# EAGLE library part E24 (library 00shaunc)
24-Electrode Laser Milled Pt Electrode Array
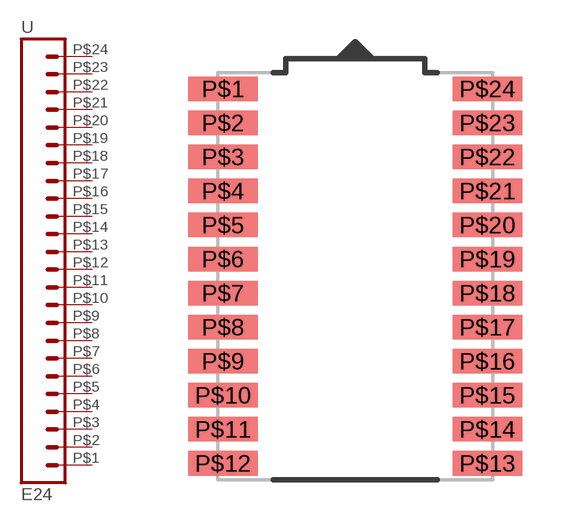
[diagram p4: symbol with the pads of E12X2; footprint E12X2]

Designator prefix -

## E24  [E12X2]
P$1  1  pas
P$2  2  pas
P$3  3  pas
P$4  4  pas
P$5  5  pas
P$6  6  pas
P$7  7  pas
P$8  8  pas
P$9  9  pas
P$10  10  pas
P$11  11  pas
P$12  12  pas
P$13  13  pas
P$14  14  pas
P$15  15  pas
P$16  16  pas
P$17  17  pas
P$18  18  pas
P$19  19  pas
P$20  20  pas
P$21  21  pas
P$22  22  pas
P$23  23  pas
P$24  24  pas

## Footprint E12X2 (pad centres in mm)
24-Electrode (12x2) SMD Footprint
smd 2.54 x 0.9: P$1 -4.85,6.25; P$2 -4.85,5; P$3 -4.85,3.75; P$4 -4.85,2.5; P$5 -4.85,1.25; P$6 -4.85,0; P$7 -4.85,-1.25; P$8 -4.85,-2.5; P$9 -4.85,-3.75; P$10 -4.85,-5; P$11 -4.85,-6.25; P$12 -4.85,-7.5; P$13 4.85,-7.5; P$14 4.85,-6.25; P$15 4.85,-5; P$16 4.85,-3.75; P$17 4.85,-2.5; P$18 4.85,-1.25; P$19 4.85,0; P$20 4.85,1.25; P$21 4.85,2.5; P$22 4.85,3.75; P$23 4.85,5; P$24 4.85,6.25